# Altium schematic symbol library TPS3106K33DBVR.SchLib: 2 symbols
Pins are listed as number, name and electrical type; pins without a type are passive.

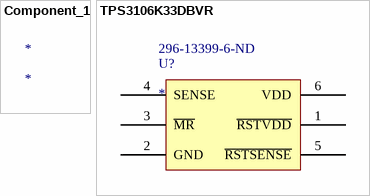
[diagram p0: symbols Component_1 to TPS3106K33DBVR]

## Component_1
designator *

## TPS3106K33DBVR
designator U?  Supplier Part Number 1: 296-13399-6-ND
IC SUPERVISORY CIRCUIT SOT-23-6; Manufacturer: Texas Instruments (TI); Manufacturer Part Number: TPS3106K33DBVR; Min Supply Voltage: 400mV; Max Power Dissipation: 437mW; Threshold Voltage: 2.941V; Max Supply Current: 27uA; Watchdog Timer: No; Max Reset Threshold Voltage: 2.963V; Min Reset Threshold Voltage: 2.919V; Quiescent Current: 1.2uA; Max Supply Voltage: 3.3V; Nominal Supply Current: 2uA; Number of Voltages Monitored: 1; Reset: Active Low; Reset Timeout: 65ms; Supplier 1: Digikey; Stock 1: 17229; Pricing 1: 1=2.46, 10=2.211, 100=1.7771, 500=1.46, 1000=1.2097 (USD); Mount: Surface Mount; Case/Package: SOT-23; Number of Pins: 6; Min Operating Temperature: -40°C; Max Operating Temperature: 85°C; Packaging: Tape and Reel; Package Quantity: 3000; Overvoltage Threshold: 2.963V; Undervoltage Threshold: 2.941V; Operating Supply Current: 1.2uA; Power Dissipation: 437mW; Radiation Hardening: No; Lead Free: Contains Lead; REACH SVHC: No SVHC; ComponentLink1URL: https://datasheet.ciiva.com/1970/tps3106e16-1970998.pdf; ComponentLink1Description: https://datasheet.ciiva.com/1970/tps3106e16-1970998.pdf; ComponentLink2URL: https://datasheet.ciiva.com/1970/tps3106e16-1970999.pdf; ComponentLink2Description: https://datasheet.ciiva.com/1970/tps3106e16-1970999.pdf; ComponentLink3URL: https://datasheet.ciiva.com/1971/tps3106e16-1971000.pdf; ComponentLink3Description: https://datasheet.ciiva.com/1971/tps3106e16-1971000.pdf; ComponentLink4URL: https://datasheet.ciiva.com/14200/tps3110k33-14200761.pdf; ComponentLink4Description: https://datasheet.ciiva.com/14200/tps3110k33-14200761.pdf; ComponentLink5URL: https://datasheet.ciiva.com/46385/1882710-46385546.pdf; ComponentLink5Description: https://datasheet.ciiva.com/46385/1882710-46385546.pdf; ComponentLink6URL: https://datasheet.ciiva.com/7990/1831155-7990507.pdf; ComponentLink6Description: https://datasheet.ciiva.com/7990/1831155-7990507.pdf; ComponentLink7URL: https://datasheet.ciiva.com/14200/tps3110k33-14200763.pdf; ComponentLink7Description: https://datasheet.ciiva.com/14200/tps3110k33-14200763.pdf; ComponentLink8URL: https://datasheet.ciiva.com/41462/001014752-da-01-en-ic-supervisory-tps3106k33dbvr-sot-6-tid-41462599.pdf; ComponentLink8Description: https://datasheet.ciiva.com/41462/001014752-da-01-en-ic-supervisory-tps3106k33dbvr-sot-6-tid-41462599.pdf; ComponentLink9URL: https://datasheet.ciiva.com/26884/tps3106k33dbvr-26884955.pdf; ComponentLink9Description: https://datasheet.ciiva.com/26884/tps3106k33dbvr-26884955.pdf
footprint SOT95P280X145-6N (SOT23, 6-Leads, Body 2.90x2.80mm, Pitch 0.95mm, IPC Medium Density)
pins: 1 ~{RSTVDD}, 2 GND, 3 ~{MR}, 4 SENSE, 5 ~{RSTSENSE}, 6 VDD